# Altium footprint library g-SWITCH-M7.1x6.6AS3.25-2T_TH.PcbLib: 1 footprints
Each footprint in its own frame and in the unit in brackets; x right, y up, seen from the top. Pads: shape width x height; smd on the part's side, far side on the other; paste and mask are expansions set on the pad; w line width, h text height; cw(c..) or ccw(c..) is an arc to the next point about the centre after c.
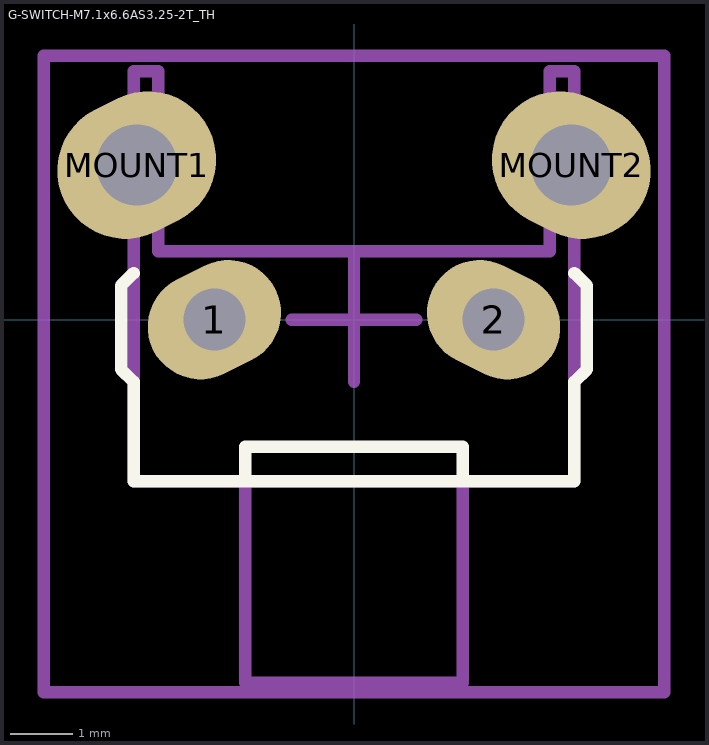
[diagram p0: the footprint, top view; thin cyan lines are the x and y axes]

## G-SWITCH-M7.1x6.6AS3.25-2T_TH [mm] "Switch Tactile, Side actuated, Thru hole"
height 7
pads (4):
  oval 2.2x1.7 hole 1 rot 26.6: 1(-2.25,0)
  oval 2.2x1.7 hole 1 rot 153.4: 2(2.25,0)
  oval 2.6x2.2 hole 1.3 rot 26.6: MOUNT1(-3.5,2.49)
  oval 2.6x2.2 hole 1.3 rot 153.4: MOUNT2(3.5,2.49)
Top Overlay:
  lines w0.2: -3.55,0.75 -3.75,0.55 -3.75,-0.8 -3.55,-1 -3.55,-2.6 3.55,-2.6 3.55,-1 3.75,-0.8 3.75,0.55 3.55,0.75 ; -1.75,-2.6 -1.75,-2.05 1.75,-2.05 1.75,-2.6
Mechanical 13:
  lines w0.2: -1.75,-2.6 -1.75,-5.85 1.75,-5.85 1.75,-2.6 ; -3.55,-2.6 3.55,-2.6 3.55,1.1 3.55,4 3.15,4 3.15,1.1 -3.15,1.1 -3.15,4 -3.55,4 -3.55,1.1 -3.55,-2.6
Mechanical 15:
  lines w0.2: -1,0 1,0 ; 0,-1 0,1 ; -5,-6 -5,4.25 5,4.25 5,-6 -5,-6
3D body: height 7, standoff -3.52, extent -4.204,-5.769 4.204,4.074